# EAGLE library part OPA4322SAIPW (library PocketCube)
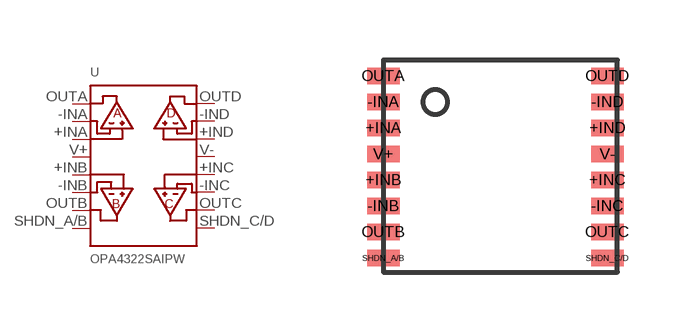
[diagram p6: symbol with the pads of OPA4322SAIPW; footprint OPA4322SAIPW]

Designator prefix -

## OPA4322SAIPW  [OPA4322SAIPW]
+INA  +INA
+INB  +INB
+INC  +INC
+IND  +IND
-INA  -INA
-INB  -INB
-INC  -INC
-IND  -IND
OUTA  OUTA
OUTB  OUTB
OUTC  OUTC
OUTD  OUTD
SHDN_A/B  SHDN_A/B
SHDN_C/D  SHDN_C/D
V+  V+
V-  V-

## Footprint OPA4322SAIPW (pad centres in mm)
smd 0.813 x 0.406: +INA 0,3.9; +INB 0,2.6; +INC 5.6,2.6; +IND 5.6,3.9; -INA 0,4.55; -INB 0,1.95; -INC 5.6,1.95; -IND 5.6,4.55; OUTA 0,5.2; OUTB 0,1.3; OUTC 5.6,1.3; OUTD 5.6,5.2; SHDN_A/B 0,0.65; SHDN_C/D 5.6,0.65; V+ 0,3.25; V- 5.6,3.25